# Altium schematic symbol library SCH - POWER - LINEAR VREG - ANALOG MAX77654AENVN.SchLib: 1 symbol
Pins are listed as number, name and electrical type; pins without a type are passive.

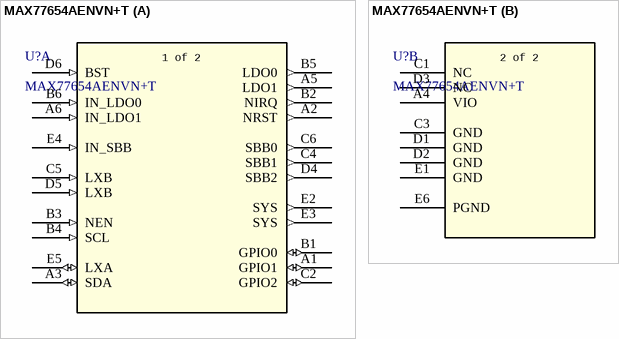
[diagram p0: symbol MAX77654AENVN+T]

## MAX77654AENVN+T
designator U?
Ultra-Low Power PMIC Featuring Single-Inductor, 3-Output Buck-Boost, 2-LDOs, Power-Path Charger for Small Li+, and Ship Mode; Manufacturer_Name: Analog Devices Inc; Copyright: Copyright (C) 2026 Ultra Librarian. All rights reserved.; Manufacturer_Part_Number: MAX77654AENVN+T; RefDes: RefDes; Type: Type
footprint 21-100307_N302C2+1_MXM
part A pins: A1 GPIO1 (io), A2 NRST (out), A3 SDA (io), A5 LDO1 (out), A6 IN_LDO1 (in), B1 GPIO0 (io), B2 NIRQ (out), B3 NEN (in), B4 SCL (in), B5 LDO0 (out), B6 IN_LDO0 (in), C2 GPIO2 (io), C4 SBB1 (out), C5 LXB (in), C6 SBB0 (out), D4 SBB2 (out), D5 LXB (in), D6 BST (in), E2 SYS (out), E3 SYS (out), E4 IN_SBB (in), E5 LXA (io)
part B pins: A4 VIO (power), C1 NC, C3 GND (power), D1 GND (power), D2 GND (power), D3 NC, E1 GND (power), E6 PGND (power)
part A text: 1 of 2
part B text: 2 of 2